# Altium schematic symbol library header_female.SchLib: 9 symbols
Pins are listed as number, name and electrical type; pins without a type are passive.

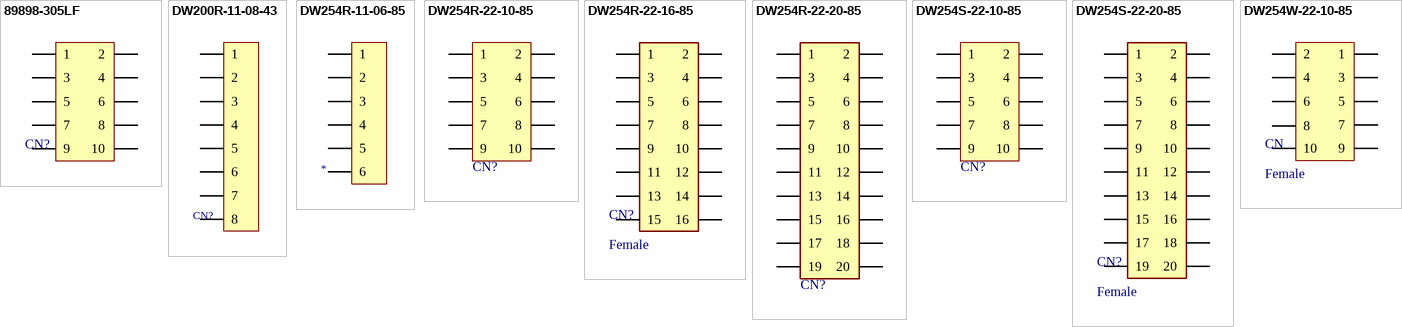
[diagram p0: symbols 89898-305LF to DW254W-22-10-85]

## 89898-305LF
designator CN?, comment Female  (value not drawn)
HDR 2x5 Female SMD 2.54mm pitch; Manufacturer: Amphenol ICC; Manufacturer part number: 89898-305LF; Positions: 10; ComponentLink1Description: Datasheet; ComponentLink1URL: https://cdn.amphenol-cs.com/media/wysiwyg/files/documentation/datasheet/boardwiretoboard/bwb_dubox_shunts.pdf
footprint 2X5 100 MILS SMD MIRROR
footprint 2X5 100 MILS SMD
pins: 1, 2, 3, 4, 5, 6, 7, 8, 9, 10

## DW200R-11-08-43
designator CN?  (value not drawn)
1 x 8 - tru hole 2mm - altura 4.3mm; Manufacturer: Dealon; Manufacturer Part Number: DW200R-11-08-43; Category: Header hembra; Datasheet: https://datasheet.lcsc.com/lcsc/2201121730_DEALON-DW200R-11-08-43_C2935972.pdf
footprint DW200R-11-08-43
pins: 1, 2, 3, 4, 5, 6, 7, 8

## DW254R-11-06-85
designator *  (value not drawn)
1 x 6 - tru hole 2.54mm - altura 8.5mm; Manufacturer: Dealon; Manufacturer Part Number: DW254R-11-06-85; Category: Header hembra; Datasheet: https://datasheet.lcsc.com/lcsc/2201121700_DEALON-DW254R-11-06-85_C2935900.pdf
footprint DW254R-11-06-85
pins: 1, 2, 3, 4, 5, 6

## DW254R-22-10-85
designator CN?, comment Female  (value not drawn)
2 x 5 - true hole 2.54mm - altura 8.5mm; 01 - Manufacturer: Dealon; 02 - Part number: DW254R-22-10-85; 11 - Price x 1: 0.1068; 12 - Min order: 5; ComponentLink1Description: Datasheet; ComponentLink1URL: https://cdn.amphenol-cs.com/media/wysiwyg/files/documentation/datasheet/boardwiretoboard/bwb_dubox_shunts.pdf; 05 - Remplacement: *; 10 - LCSC stock: 1090; 20 - Digikey stock: NO; 21 - Price x 1: *; 30 - Mouser stock: NO; 22 - Min order: *; 31 - Price x 1: *; 32 - Min order: *; 40 - PCBWAY enable: *; 41 - PCBWAY price: *
footprint 2X5 100 MILS TR HOLE MIRROR
pins: 1, 2, 3, 4, 5, 6, 7, 8, 9, 10

## DW254R-22-16-85
designator CN?, comment Female
2 x 8 - true hole 2.54mm - altura 8.5mm
pins: 1, 2, 3, 4, 5, 6, 7, 8, 9, 10, 11, 12, 13, 14, 15, 16

## DW254R-22-20-85
designator CN?
2 x 10 - true hole 2.54mm - altura 8.5mm; Manufacturer: Dealon; Manufacturer Part Number: DW254R-22-20-85; Category: Header female
footprint DW254R-22-10-85
pins: 1, 2, 3, 4, 5, 6, 7, 8, 9, 10, 11, 12, 13, 14, 15, 16, 17, 18, 19, 20

## DW254S-22-10-85
designator CN?  (value not drawn)
2 x 5 - SMD 2.54mm - altura 8.5mm; Manufacturer: Dealon; Manufacturer Part Number: DW254S-22-10-85; Category: Header female; Datasheet: https://datasheet.lcsc.com/lcsc/2209141730_DEALON-DW254S-22-10-85_C5160820.pdf
footprint 2X5 100 MILS SMD
pins: 1, 2, 3, 4, 5, 6, 7, 8, 9, 10

## DW254S-22-20-85
designator CN?, comment Female
2 x 5 - SMD 2.54mm - Altura 8.5mm
footprint DW254S-22-10-85
pins: 1, 2, 3, 4, 5, 6, 7, 8, 9, 10, 11, 12, 13, 14, 15, 16, 17, 18, 19, 20

## DW254W-22-10-85
designator CN, comment Female
2 x 5 - true hole 2.54mm - altura 8.5mm - 90°; Manufacturer: Amphenol ICC; Manufacturer part number: 89898-305LF; Positions: 10; ComponentLink1Description: Datasheet; ComponentLink1URL: https://cdn.amphenol-cs.com/media/wysiwyg/files/documentation/datasheet/boardwiretoboard/bwb_dubox_shunts.pdf
pins: 1, 2, 3, 4, 5, 6, 7, 8, 9, 10